# EAGLE library part SN75DP130 (library TI)
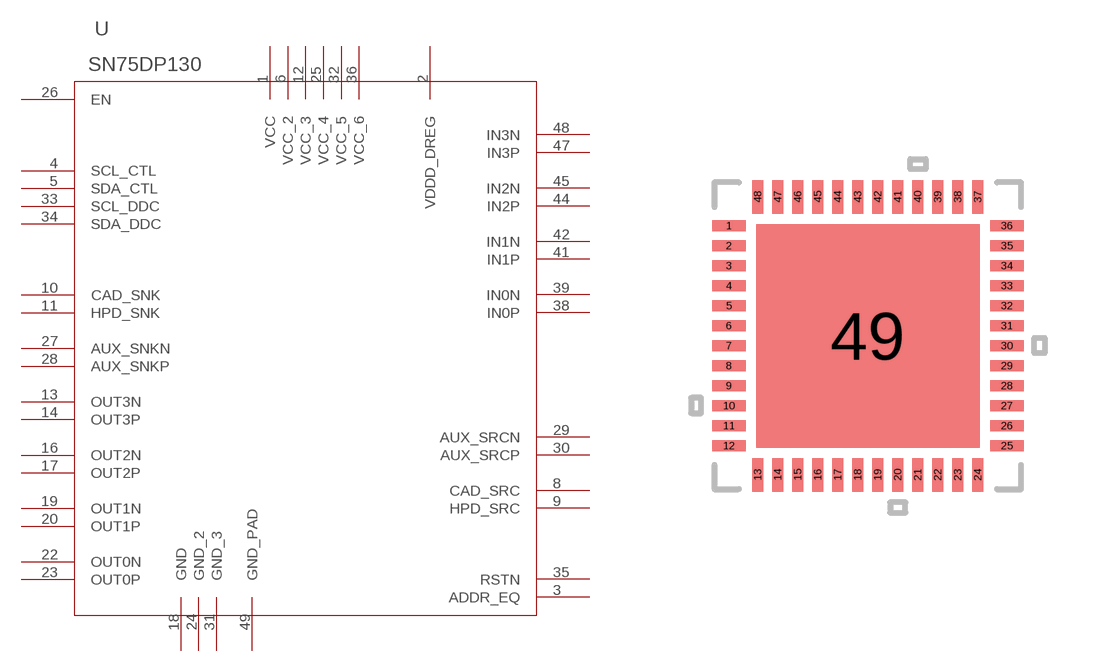
[diagram p2: symbol with the pads of RGZ48_5P6X5P6; footprint RGZ48_5P6X5P6]

Designator prefix U

## SN75DP130SN75DP130-SS  [RGZ48_5P6X5P6]
1  VCC  pwr
2  VDDD_DREG  pwr
3  ADDR_EQ  in
4  SCL_CTL
5  SDA_CTL
6  VCC_2  pwr
7  NC  nc
8  CAD_SRC
9  HPD_SRC
10  CAD_SNK
11  HPD_SNK
12  VCC_3  pwr
13  OUT3N  out
14  OUT3P  out
15  NC_2  nc
16  OUT2N  out
17  OUT2P  out
18  GND  pwr
19  OUT1N  out
20  OUT1P  out
21  NC_3  nc
22  OUT0N  out
23  OUT0P  out
24  GND_2  pwr
25  VCC_4  pwr
26  EN  in
27  AUX_SNKN
28  AUX_SNKP
29  AUX_SRCN
30  AUX_SRCP
31  GND_3  pwr
32  VCC_5  pwr
33  SCL_DDC
34  SDA_DDC
35  RSTN  in
36  VCC_6  pwr
37  NC_4  nc
38  IN0P  in
39  IN0N  in
40  NC_5  nc
41  IN1P  in
42  IN1N  in
43  NC_6  nc
44  IN2P  in
45  IN2N  in
46  NC_7  nc
47  IN3P  in
48  IN3N  in
49  GND_PAD  pwr

## Footprint RGZ48_5P6X5P6 (pad centres in mm)
smd 0.838 x 0.279: 1 -3.475,2.75; 2 -3.475,2.25; 3 -3.475,1.75; 4 -3.475,1.25; 5 -3.475,0.75; 6 -3.475,0.25; 7 -3.475,-0.25; 8 -3.475,-0.75; 9 -3.475,-1.25; 10 -3.475,-1.75; 11 -3.475,-2.25; 12 -3.475,-2.75; 25 3.475,-2.75; 26 3.475,-2.25; 27 3.475,-1.75; 28 3.475,-1.25; 29 3.475,-0.75; 30 3.475,-0.25; 31 3.475,0.25; 32 3.475,0.75; 33 3.475,1.25; 34 3.475,1.75; 35 3.475,2.25; 36 3.475,2.75
smd 0.279 x 0.838: 13 -2.751,-3.475; 14 -2.251,-3.475; 15 -1.75,-3.475; 16 -1.25,-3.475; 17 -0.75,-3.475; 18 -0.25,-3.475; 19 0.25,-3.475; 20 0.75,-3.475; 21 1.25,-3.475; 22 1.75,-3.475; 23 2.251,-3.475; 24 2.751,-3.475; 37 2.751,3.475; 38 2.251,3.475; 39 1.75,3.475; 40 1.25,3.475; 41 0.75,3.475; 42 0.25,3.475; 43 -0.25,3.475; 44 -0.75,3.475; 45 -1.25,3.475; 46 -1.75,3.475; 47 -2.251,3.475; 48 -2.751,3.475
smd 5.588 x 5.588: 49 0,0